# EAGLE library part 618026331023 (library Wurth_Elektronik_Electromechanic_Input-Output_Connectors_rev16a)
WR-DSUB Male High Density Angled PCB Connector with Hex Screw, 26 Pins=>Code : Con_I-O_DSUB_PCB_Male_w-screw_618026331023 <http://katalog.we-online.de/media/images/eican/Con_I-O_DSUB_PCB_Male_w-screw_6180xx331023_pf2.jpg> Details see: http://katalog.we-online.de/en/em/618_0xx_331_023 Created 2014-07-10, Karrer Zheng 2014 (C) Würth Elektronik
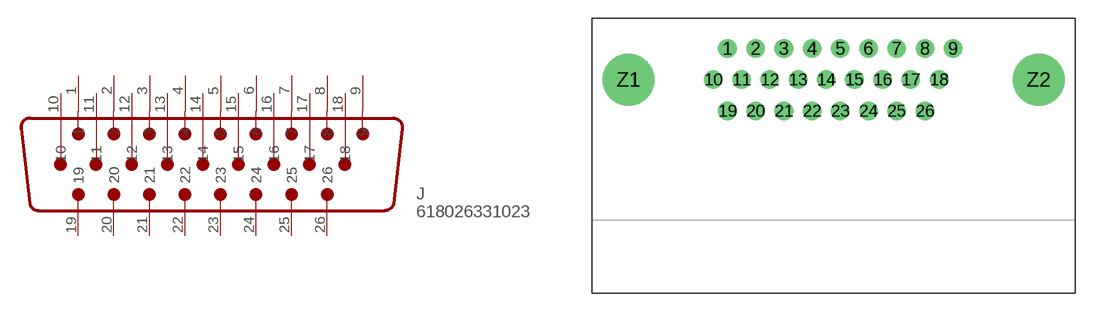
[diagram p49: symbol with the pads of 618026331023; footprint 618026331023]

Designator prefix J

## 618026331023  [618026331023]
1  1
2  2
3  3
4  4
5  5
6  6
7  7
8  8
9  9
10  10
11  11
12  12
13  13
14  14
15  15
16  16
17  17
18  18
19  19
20  20
21  21
22  22
23  23
24  24
25  25
26  26

## Footprint 618026331023 (pad centres in mm)
WR-DSUB Male High Density Angled PCB Connector with Hex Screw, 26 Pins
drill 1: 1 -8.62,2.54; 2 -6.33,2.54; 3 -4.04,2.54; 4 -1.75,2.54; 5 0.54,2.54; 6 2.83,2.54; 7 5.12,2.54; 8 7.41,2.54; 9 9.7,2.54; 10 -9.765,0; 11 -7.475,0; 12 -5.185,0; 13 -2.895,0; 14 -0.605,0; 15 1.685,0; 16 3.975,0; 17 6.265,0; 18 8.555,0; 19 -8.62,-2.54; 20 -6.33,-2.54; 21 -4.04,-2.54; 22 -1.75,-2.54; 23 0.54,-2.54; 24 2.83,-2.54; 25 5.12,-2.54; 26 7.41,-2.54
drill 3.2: Z1 -16.65,0; Z2 16.65,0